# Altium schematic symbol library 电调主板.SchLib: 2 symbols
Pins are listed as number, name and electrical type; pins without a type are passive.

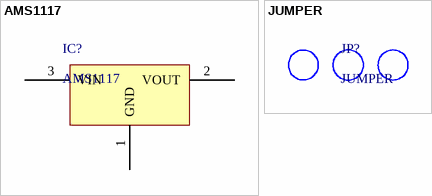
[diagram p0: symbols AMS1117 to JUMPER]

## AMS1117
designator IC?
3V3降压芯片
pins: 1 GND, 2 VOUT, 3 VIN

## JUMPER
designator JP?
电机焊盘